# Altium integrated library Analog Devices Data Converters Digital-to-Analog Converters.IntLib: 2231 symbols (part 121 of 181)
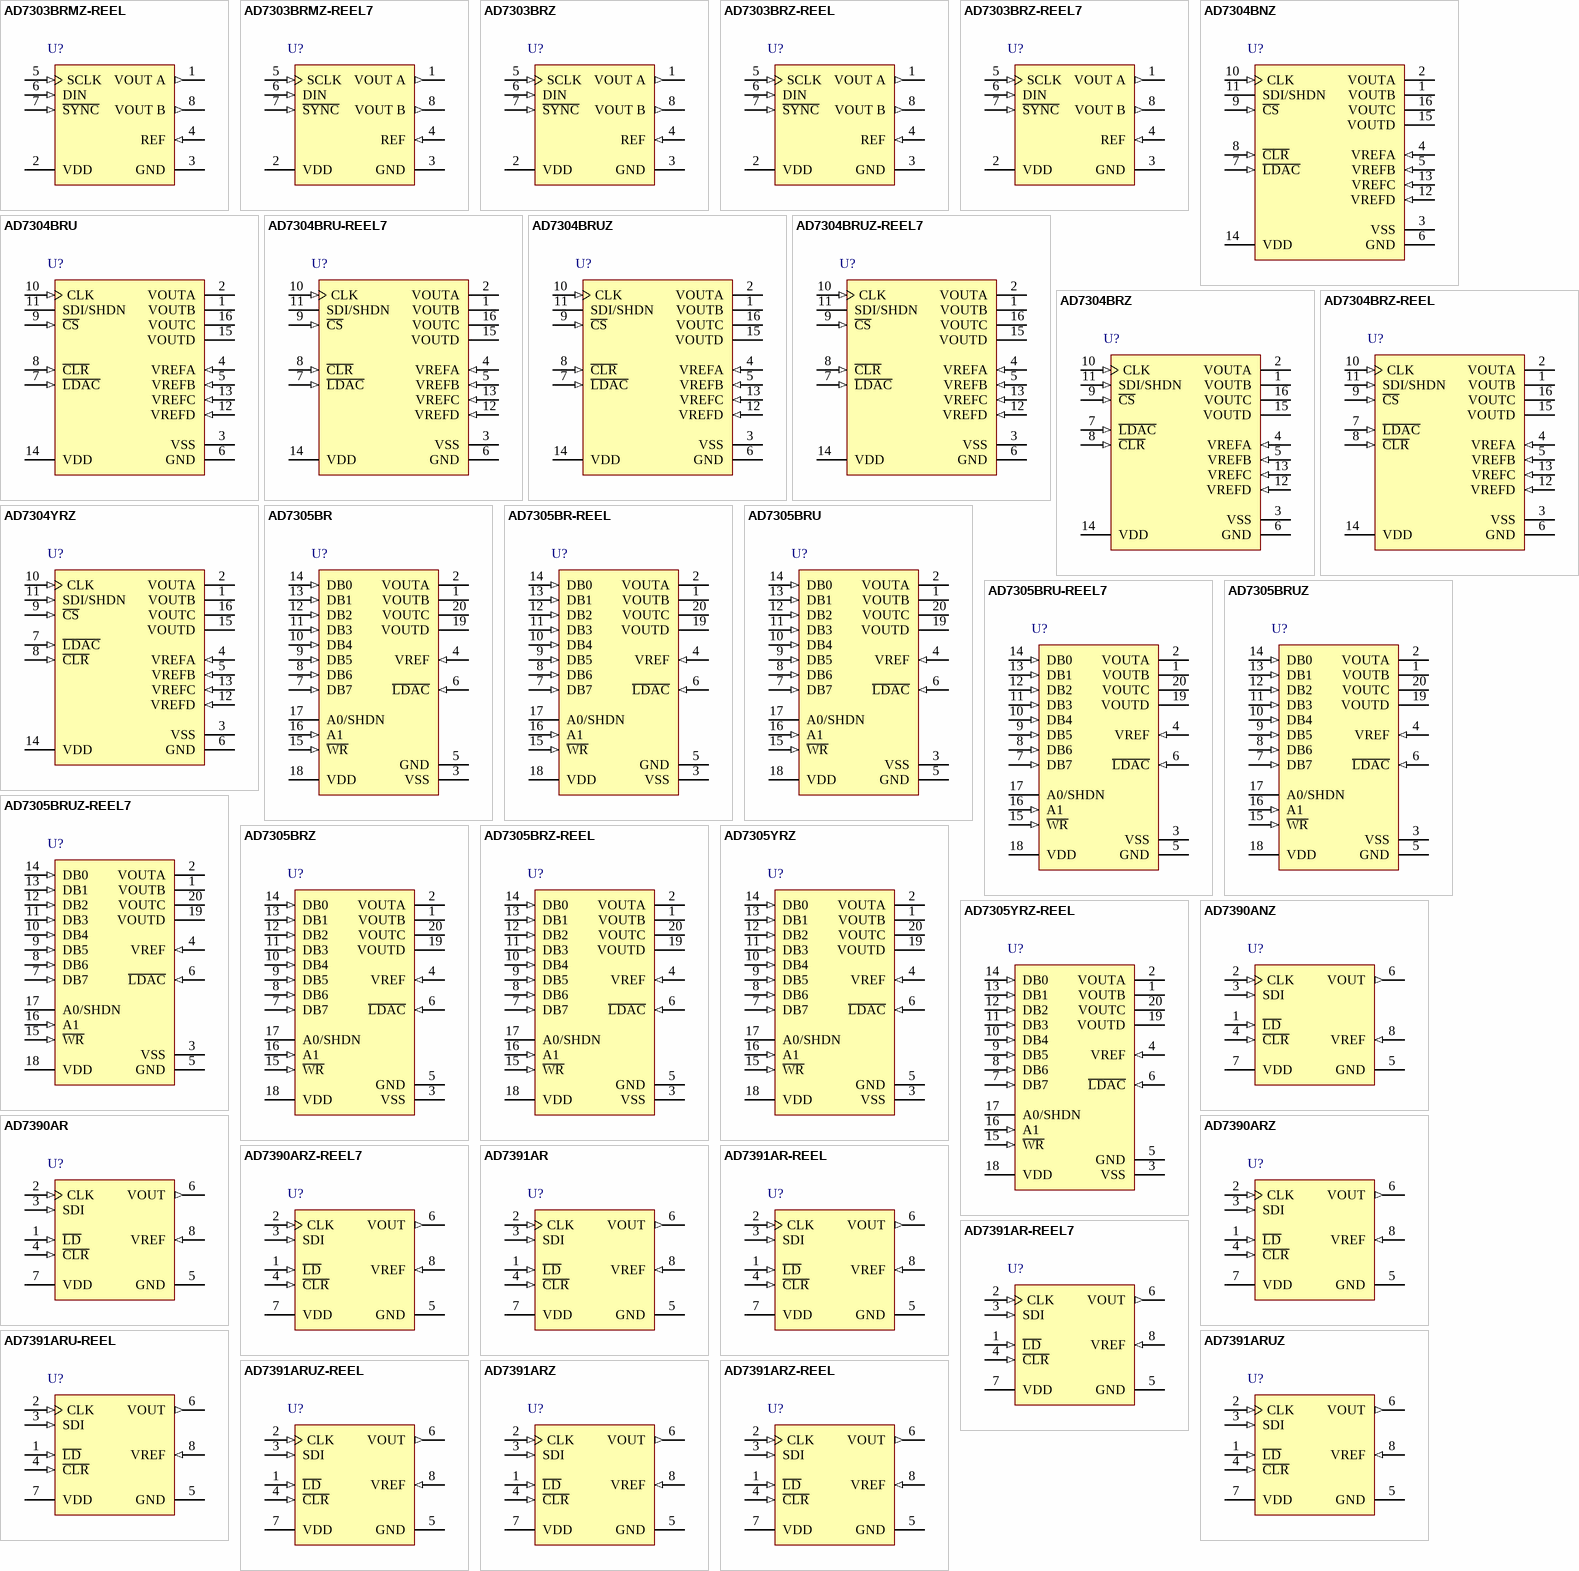
[diagram p234: symbols AD7303BRMZ-REEL to AD7391ARZ-REEL]

## AD7304BRZ
designator U?
Quad 8-Bit Rail-to-Rail Output Digital-to-Analog Converter, 3 V / 5 V, -40 to +85 degC, RW-16, Pb-Free, Tube; Generic Part Number: AD7304; Manufacturer: Analog Devices; PartNumber: AD7304BRZ; # DAC Outputs: 4; Max V+: 5.5V; Op Pwr Diss: 60mW; Resolution (Bits): 8; Settling Time: 1µs; Single Supply: Yes; DatasheetVersion: Rev.C; PackageVersion: 032707-B; PackageReference: RW-16; PackageDescription: 16-Lead Standard Small Outline Package [SOIC_W]; Supplier 1: Digi-Key; Supplier Part Number 1: AD7304BRZ-ND; Supplier 2: Farnell; Supplier Part Number 2: 2305681; Supplier 3: Newark; Supplier Part Number 3: 59K4702; Supplier 4: Mouser; Supplier Part Number 4: 584-AD7304BRZ; Packing: Tube; RoHS: Y; Mounting Technology: Surface Mount; Code_JEDEC: MS-013-AA; Code_IPC: SOIC127P1030-16; ComponentLink1Description: Manufacturer URL; ComponentLink1URL: http://www.analog.com/en/index.html; ComponentLink2Description: Datasheet; ComponentLink2URL: http://www.analog.com/static/imported-files/data_sheets/AD7304_7305.pdf; ComponentLink3Description: Package Specification; ComponentLink3URL: http://www.analog.com/static/imported-files/packages/PKG_PDF/SOIC_WIDE%20%28RW%29/RW_16.pdf; ComponentLink4Description: Product URL; ComponentLink4URL: http://www.analog.com/en/digital-to-analog-converters/da-converters/ad7304/products/product.html
footprint RW-16_N (SOIC, 16-Leads, Body 10.3x7.5mm, Pitch 1.27mm, IPC Medium Density)
footprint RW-16_L (SOIC, 16-Leads, Body 10.3x7.5mm, Pitch 1.27mm, IPC High Density)
footprint RW-16_M (SOIC, 16-Leads, Body 10.3x7.5mm, Pitch 1.27mm, IPC Low Density)
pins: 1 VOUTB (hiz) "Channel B Rail-to-Rail Buffered DAC Voltage Output. Full-scale set by reference voltage applied to VREFB pin. Output is open circuit when SHDN is enabled.", 2 VOUTA (hiz) "Channel A Rail-to-Rail Buffered DAC Voltage Output. Full-scale set by reference voltage applied to VREFA pin. Output is open circuit when SHDN is enabled.", 3 VSS (power) "Negative Power Supply Input. Specified range of operation is 0 V to -5.5 V.", 4 VREFA (in) "Channel A Reference Input. Establishes VOUTA full-scale voltage. Specified range of operation is VSS < VREFA < VDD.", 5 VREFB (in) "Channel B Reference Input. Establishes VOUTB full-scale voltage. Specified range of operation is VSS < VREFB < VDD.", 6 GND (power) "Common Analog and Digital Ground.", 7 ~{LDAC} (in) "Load DAC Register Strobe, Active Low. Simultaneously transfers data from all four input registers into the corresponding DAC registers. Asynchronous active low input. DAC register is transparent when L\D\A\C\ = 0. See Table (See Datasheet)", 8 ~{CLR} (in) "Clears All Input and DAC Registers to the Zero Condition. Asynchronous active low input. The serial register is not effected.", 9 ~{CS} (in) "Chip Select, Active Low Input. Disables shift register loading when high. Transfers serial input register data to the decoded input register when C\S\ returns high. Does not effect L\D\A\C\ operation.", 10 CLK (in) "Clock Input, Positive Edge Clocks Data into Shift Register. Disabled by chip select C\S\.", 11 SDI/SHDN (in) "Serial Data Input Loads Directly into the Shift Register, MSB First. Hardware shutdown (SHDN) control input, active when pin is left floating by a three-state logic driver. Does not effect DAC register contents as long as (See Datasheet)", 12 VREFD (in) "Channel D Reference Input. Establishes VOUTD full-scale voltage. Specified range of operation is VSS < VREFD < VDD.", 13 VREFC (in) "Channel C Reference Input. Establishes VOUTC full-scale voltage. Specified range of operation is VSS VREFC < VDD.", 14 VDD (power) "Positive Power Supply Input. Specified range of operation is 2.7 V to 5.5 V.", 15 VOUTD (hiz) "Channel D Rail-to-Rail Buffered DAC Voltage Output. Full-scale set by reference voltage applied to VREFD pin. Output is open circuit when SHDN is enabled.", 16 VOUTC (hiz) "Channel C Rail-to-Rail Buffered DAC Voltage Output. Full-scale set by reference voltage applied to VREFC pin. Output is open circuit when SHDN is enabled."

## AD7304BRZ-REEL
designator U?
Quad 8-Bit Rail-to-Rail Output Digital-to-Analog Converter, 3 V / 5 V, -40 to +85 degC, RW-16, Pb-Free, Reel; Generic Part Number: AD7304; Manufacturer: Analog Devices; PartNumber: AD7304BRZ-REEL; # DAC Outputs: 4; Max V+: 5.5V; Op Pwr Diss: 60mW; Resolution (Bits): 8; Settling Time: 1µs; Single Supply: Yes; DatasheetVersion: Rev.C; PackageVersion: 032707-B; PackageReference: RW-16; PackageDescription: 16-Lead Standard Small Outline Package [SOIC_W]; Supplier 1: Digi-Key; Supplier Part Number 1: AD7304BRZ-REEL-ND; Supplier 2: Mouser; Supplier Part Number 2: 584-AD7304BRZ-R; Packing: Reel; RoHS: Y; Mounting Technology: Surface Mount; Code_JEDEC: MS-013-AA; Code_IPC: SOIC127P1030-16; ComponentLink1Description: Manufacturer URL; ComponentLink1URL: http://www.analog.com/en/index.html; ComponentLink2Description: Datasheet; ComponentLink2URL: http://www.analog.com/static/imported-files/data_sheets/AD7304_7305.pdf; ComponentLink3Description: Package Specification; ComponentLink3URL: http://www.analog.com/static/imported-files/packages/PKG_PDF/SOIC_WIDE%20%28RW%29/RW_16.pdf; ComponentLink4Description: Product URL; ComponentLink4URL: http://www.analog.com/en/digital-to-analog-converters/da-converters/ad7304/products/product.html
footprint RW-16_N (SOIC, 16-Leads, Body 10.3x7.5mm, Pitch 1.27mm, IPC Medium Density)
footprint RW-16_L (SOIC, 16-Leads, Body 10.3x7.5mm, Pitch 1.27mm, IPC High Density)
footprint RW-16_M (SOIC, 16-Leads, Body 10.3x7.5mm, Pitch 1.27mm, IPC Low Density)
pins: 1 VOUTB (hiz) "Channel B Rail-to-Rail Buffered DAC Voltage Output. Full-scale set by reference voltage applied to VREFB pin. Output is open circuit when SHDN is enabled.", 2 VOUTA (hiz) "Channel A Rail-to-Rail Buffered DAC Voltage Output. Full-scale set by reference voltage applied to VREFA pin. Output is open circuit when SHDN is enabled.", 3 VSS (power) "Negative Power Supply Input. Specified range of operation is 0 V to -5.5 V.", 4 VREFA (in) "Channel A Reference Input. Establishes VOUTA full-scale voltage. Specified range of operation is VSS < VREFA < VDD.", 5 VREFB (in) "Channel B Reference Input. Establishes VOUTB full-scale voltage. Specified range of operation is VSS < VREFB < VDD.", 6 GND (power) "Common Analog and Digital Ground.", 7 ~{LDAC} (in) "Load DAC Register Strobe, Active Low. Simultaneously transfers data from all four input registers into the corresponding DAC registers. Asynchronous active low input. DAC register is transparent when L\D\A\C\ = 0. See Table (See Datasheet)", 8 ~{CLR} (in) "Clears All Input and DAC Registers to the Zero Condition. Asynchronous active low input. The serial register is not effected.", 9 ~{CS} (in) "Chip Select, Active Low Input. Disables shift register loading when high. Transfers serial input register data to the decoded input register when C\S\ returns high. Does not effect L\D\A\C\ operation.", 10 CLK (in) "Clock Input, Positive Edge Clocks Data into Shift Register. Disabled by chip select C\S\.", 11 SDI/SHDN (in) "Serial Data Input Loads Directly into the Shift Register, MSB First. Hardware shutdown (SHDN) control input, active when pin is left floating by a three-state logic driver. Does not effect DAC register contents as long as (See Datasheet)", 12 VREFD (in) "Channel D Reference Input. Establishes VOUTD full-scale voltage. Specified range of operation is VSS < VREFD < VDD.", 13 VREFC (in) "Channel C Reference Input. Establishes VOUTC full-scale voltage. Specified range of operation is VSS VREFC < VDD.", 14 VDD (power) "Positive Power Supply Input. Specified range of operation is 2.7 V to 5.5 V.", 15 VOUTD (hiz) "Channel D Rail-to-Rail Buffered DAC Voltage Output. Full-scale set by reference voltage applied to VREFD pin. Output is open circuit when SHDN is enabled.", 16 VOUTC (hiz) "Channel C Rail-to-Rail Buffered DAC Voltage Output. Full-scale set by reference voltage applied to VREFC pin. Output is open circuit when SHDN is enabled."

## AD7304YRZ
designator U?
Quad 8-Bit Rail-to-Rail Output Digital-to-Analog Converter, 3 V / 5 V, -40 to +85 degC, RW-16, Pb-Free, Tube; Generic Part Number: AD7304; Manufacturer: Analog Devices; PartNumber: AD7304YRZ; # DAC Outputs: 4; Max V+: 5.5V; Op Pwr Diss: 60mW; Resolution (Bits): 8; Settling Time: 1µs; Single Supply: Yes; DatasheetVersion: Rev.C; PackageVersion: 032707-B; PackageReference: RW-16; PackageDescription: 16-Lead Standard Small Outline Package [SOIC_W]; Supplier 1: Digi-Key; Supplier Part Number 1: AD7304YRZ-ND; Supplier 2: Farnell; Supplier Part Number 2: 1438404; Supplier 3: Newark; Supplier Part Number 3: 15P0787; Supplier 4: Mouser; Supplier Part Number 4: 584-AD7304YRZ; Packing: Tube; RoHS: Y; Mounting Technology: Surface Mount; Code_JEDEC: MS-013-AA; Code_IPC: SOIC127P1030-16; ComponentLink1Description: Manufacturer URL; ComponentLink1URL: http://www.analog.com/en/index.html; ComponentLink2Description: Datasheet; ComponentLink2URL: http://www.analog.com/static/imported-files/data_sheets/AD7304_7305.pdf; ComponentLink3Description: Package Specification; ComponentLink3URL: http://www.analog.com/static/imported-files/packages/PKG_PDF/SOIC_WIDE%20%28RW%29/RW_16.pdf; ComponentLink4Description: Product URL; ComponentLink4URL: http://www.analog.com/en/digital-to-analog-converters/da-converters/ad7304/products/product.html
footprint RW-16_N (SOIC, 16-Leads, Body 10.3x7.5mm, Pitch 1.27mm, IPC Medium Density)
footprint RW-16_L (SOIC, 16-Leads, Body 10.3x7.5mm, Pitch 1.27mm, IPC High Density)
footprint RW-16_M (SOIC, 16-Leads, Body 10.3x7.5mm, Pitch 1.27mm, IPC Low Density)
pins: 1 VOUTB (hiz) "Channel B Rail-to-Rail Buffered DAC Voltage Output. Full-scale set by reference voltage applied to VREFB pin. Output is open circuit when SHDN is enabled.", 2 VOUTA (hiz) "Channel A Rail-to-Rail Buffered DAC Voltage Output. Full-scale set by reference voltage applied to VREFA pin. Output is open circuit when SHDN is enabled.", 3 VSS (power) "Negative Power Supply Input. Specified range of operation is 0 V to -5.5 V.", 4 VREFA (in) "Channel A Reference Input. Establishes VOUTA full-scale voltage. Specified range of operation is VSS < VREFA < VDD.", 5 VREFB (in) "Channel B Reference Input. Establishes VOUTB full-scale voltage. Specified range of operation is VSS < VREFB < VDD.", 6 GND (power) "Common Analog and Digital Ground.", 7 ~{LDAC} (in) "Load DAC Register Strobe, Active Low. Simultaneously transfers data from all four input registers into the corresponding DAC registers. Asynchronous active low input. DAC register is transparent when L\D\A\C\ = 0. See Table (See Datasheet)", 8 ~{CLR} (in) "Clears All Input and DAC Registers to the Zero Condition. Asynchronous active low input. The serial register is not effected.", 9 ~{CS} (in) "Chip Select, Active Low Input. Disables shift register loading when high. Transfers serial input register data to the decoded input register when C\S\ returns high. Does not effect L\D\A\C\ operation.", 10 CLK (in) "Clock Input, Positive Edge Clocks Data into Shift Register. Disabled by chip select C\S\.", 11 SDI/SHDN (in) "Serial Data Input Loads Directly into the Shift Register, MSB First. Hardware shutdown (SHDN) control input, active when pin is left floating by a three-state logic driver. Does not effect DAC register contents as long as (See Datasheet)", 12 VREFD (in) "Channel D Reference Input. Establishes VOUTD full-scale voltage. Specified range of operation is VSS < VREFD < VDD.", 13 VREFC (in) "Channel C Reference Input. Establishes VOUTC full-scale voltage. Specified range of operation is VSS VREFC < VDD.", 14 VDD (power) "Positive Power Supply Input. Specified range of operation is 2.7 V to 5.5 V.", 15 VOUTD (hiz) "Channel D Rail-to-Rail Buffered DAC Voltage Output. Full-scale set by reference voltage applied to VREFD pin. Output is open circuit when SHDN is enabled.", 16 VOUTC (hiz) "Channel C Rail-to-Rail Buffered DAC Voltage Output. Full-scale set by reference voltage applied to VREFC pin. Output is open circuit when SHDN is enabled."

## AD7305BR
designator U?
Quad 8-Bit Rail-to-Rail Output Digital-to-Analog Converter, 3 V / 5 V, -40 to +85 degC, RW-20, Tube; Generic Part Number: AD7305; Manufacturer: Analog Devices; PartNumber: AD7305BR; # DAC Outputs: 4; Max V+: 5.5V; Op Pwr Diss: 60mW; Resolution (Bits): 8; Settling Time: 1µs; Single Supply: Yes; DatasheetVersion: Rev.C; PackageVersion: 060706-A; PackageReference: RW-20; PackageDescription: 20-Lead Standard Small Outline Package [SOIC_W] Wide Body; Supplier 1: Digi-Key; Supplier Part Number 1: AD7305BR-ND; Supplier 2: Mouser; Supplier Part Number 2: 584-AD7305BR; Packing: Tube; RoHS: N; Mounting Technology: Surface Mount; Code_JEDEC: MS-013-AC; ComponentLink1Description: Manufacturer URL; ComponentLink1URL: http://www.analog.com/en/index.html; ComponentLink2Description: Datasheet; ComponentLink2URL: http://www.analog.com/static/imported-files/data_sheets/AD7304_7305.pdf; ComponentLink3Description: Package Specification; ComponentLink3URL: http://www.analog.com/static/imported-files/packages/233848RW_20.pdf; ComponentLink4Description: Product URL; ComponentLink4URL: http://www.analog.com/en/digital-to-analog-converters/da-converters/ad7305/products/product.html
footprint RW-20_N (SOIC, 20-Leads, Body 12.8x7.5mm, Pitch 1.27mm, IPC Medium Density)
footprint RW-20_L (SOIC, 20-Leads, Body 12.8x7.5mm, Pitch 1.27mm, IPC High Density)
footprint RW-20_M (SOIC, 20-Leads, Body 12.8x7.5mm, Pitch 1.27mm, IPC Low Density)
pins: 1 VOUTB (hiz) "Channel B Rail-to-Rail Buffered DAC Voltage Output. Full-scale set by reference voltage applied to VREFB pin. Output is open circuit when SHDN is enabled.", 2 VOUTA (hiz) "Channel A Rail-to-Rail Buffered DAC Voltage Output. Full-scale set by reference voltage applied to VREFA pin. Output is open circuit when SHDN is enabled.", 3 VSS (power) "Negative Power Supply Input. Specified range of operation is 0 V to -5.5 V.", 4 VREF (in) "Channel B Reference Input. Establishes VOUT full-scale voltage. Specified range of operation is VSS < VREF < VDD.", 5 GND (power) "Common Analog and Digital Ground", 6 ~{LDAC} (in) "Load DAC Register Strobe, Active Low. Simultaneously transfers data from all four input registers into the corresponding DAC registers. Asynchronous active low input. DAC register is transparent when L\D\A\C\ = 0. See Table (See Datasheet)", 7 DB7 (in) "MSB Digital Input Data Bit.", 8 DB6 (in) "Data Bit 6.", 9 DB5 (in) "Data Bit 5.", 10 DB4 (in) "Data Bit 4.", 11 DB3 (in) "Data Bit 3.", 12 DB2 (in) "Data Bit 2.", 13 DB1 (in) "Data Bit 1.", 14 DB0 (in) "LSB Digital Input Data Bit.", 15 ~{WR} (in) "Write Data into Input Register Control Line, Active Low. See Table 6 for operation.", 16 A1 (in) "Address Bit 1.", 17 A0/SHDN "Address Bit 0/Hardware Shutdown (SHDN) Control Input, Active When Pin Is Left Floating by a Three-State Logic Driver. Does not effect DAC register contents as long as power is present on VDD.", 18 VDD (power) "Positive Power Supply Input. Specified range of operation is 2.7 V to 5.5 V.", 19 VOUTD (hiz) "Channel D Rail-to-Rail Buffered DAC Voltage Output. Full-scale set by reference voltage applied to VREFD pin. Output is open circuit when SHDN is enabled", 20 VOUTC (hiz) "Channel C Rail-to-Rail Buffered DAC Voltage Output. Full-scale set by reference voltage applied to VREFC pin. Output is open circuit when SHDN is enabled."

## AD7305BR-REEL
designator U?
Quad 8-Bit Rail-to-Rail Output Digital-to-Analog Converter, 3 V / 5 V, -40 to +85 degC, RW-20, Reel; Generic Part Number: AD7305; Manufacturer: Analog Devices; PartNumber: AD7305BR-REEL; # DAC Outputs: 4; Max V+: 5.5V; Op Pwr Diss: 60mW; Resolution (Bits): 8; Settling Time: 1µs; Single Supply: Yes; DatasheetVersion: Rev.C; PackageVersion: 060706-A; PackageReference: RW-20; PackageDescription: 20-Lead Standard Small Outline Package [SOIC_W] Wide Body; Supplier 1: Digi-Key; Supplier Part Number 1: AD7305BR-REEL-ND; Supplier 2: Newark; Supplier Part Number 2: 98B7243; Supplier 3: Mouser; Supplier Part Number 3: 584-AD7305BR-R; Packing: Reel; RoHS: N; Mounting Technology: Surface Mount; Code_JEDEC: MS-013-AC; ComponentLink1Description: Manufacturer URL; ComponentLink1URL: http://www.analog.com/en/index.html; ComponentLink2Description: Datasheet; ComponentLink2URL: http://www.analog.com/static/imported-files/data_sheets/AD7304_7305.pdf; ComponentLink3Description: Package Specification; ComponentLink3URL: http://www.analog.com/static/imported-files/packages/233848RW_20.pdf; ComponentLink4Description: Product URL; ComponentLink4URL: http://www.analog.com/en/digital-to-analog-converters/da-converters/ad7305/products/product.html
footprint RW-20_N (SOIC, 20-Leads, Body 12.8x7.5mm, Pitch 1.27mm, IPC Medium Density)
footprint RW-20_L (SOIC, 20-Leads, Body 12.8x7.5mm, Pitch 1.27mm, IPC High Density)
footprint RW-20_M (SOIC, 20-Leads, Body 12.8x7.5mm, Pitch 1.27mm, IPC Low Density)
pins: 1 VOUTB (hiz) "Channel B Rail-to-Rail Buffered DAC Voltage Output. Full-scale set by reference voltage applied to VREFB pin. Output is open circuit when SHDN is enabled.", 2 VOUTA (hiz) "Channel A Rail-to-Rail Buffered DAC Voltage Output. Full-scale set by reference voltage applied to VREFA pin. Output is open circuit when SHDN is enabled.", 3 VSS (power) "Negative Power Supply Input. Specified range of operation is 0 V to -5.5 V.", 4 VREF (in) "Channel B Reference Input. Establishes VOUT full-scale voltage. Specified range of operation is VSS < VREF < VDD.", 5 GND (power) "Common Analog and Digital Ground", 6 ~{LDAC} (in) "Load DAC Register Strobe, Active Low. Simultaneously transfers data from all four input registers into the corresponding DAC registers. Asynchronous active low input. DAC register is transparent when L\D\A\C\ = 0. See Table (See Datasheet)", 7 DB7 (in) "MSB Digital Input Data Bit.", 8 DB6 (in) "Data Bit 6.", 9 DB5 (in) "Data Bit 5.", 10 DB4 (in) "Data Bit 4.", 11 DB3 (in) "Data Bit 3.", 12 DB2 (in) "Data Bit 2.", 13 DB1 (in) "Data Bit 1.", 14 DB0 (in) "LSB Digital Input Data Bit.", 15 ~{WR} (in) "Write Data into Input Register Control Line, Active Low. See Table 6 for operation.", 16 A1 (in) "Address Bit 1.", 17 A0/SHDN "Address Bit 0/Hardware Shutdown (SHDN) Control Input, Active When Pin Is Left Floating by a Three-State Logic Driver. Does not effect DAC register contents as long as power is present on VDD.", 18 VDD (power) "Positive Power Supply Input. Specified range of operation is 2.7 V to 5.5 V.", 19 VOUTD (hiz) "Channel D Rail-to-Rail Buffered DAC Voltage Output. Full-scale set by reference voltage applied to VREFD pin. Output is open circuit when SHDN is enabled", 20 VOUTC (hiz) "Channel C Rail-to-Rail Buffered DAC Voltage Output. Full-scale set by reference voltage applied to VREFC pin. Output is open circuit when SHDN is enabled."

## AD7305BRU
designator U?
Quad 8-Bit Rail-to-Rail Output Digital-to-Analog Converter, 3 V / 5 V, -40 to +85 degC, RU-20, Tube; Generic Part Number: AD7305; Manufacturer: Analog Devices; PartNumber: AD7305BRU; # DAC Outputs: 4; Max V+: 5.5V; Op Pwr Diss: 60mW; Resolution (Bits): 8; Settling Time: 1µs; Single Supply: Yes; DatasheetVersion: Rev.C; PackageVersion: 2000; PackageReference: RU-20; PackageDescription: 20-Lead Thin Shrink Small Outline Package [TSSOP]; Supplier 1: Digi-Key; Supplier Part Number 1: AD7305BRU-ND; Supplier 2: Mouser; Supplier Part Number 2: 584-AD7305BRU; Packing: Tube; RoHS: N; Mounting Technology: Surface Mount; Code_JEDEC: MO-153AC; ComponentLink1Description: Manufacturer URL; ComponentLink1URL: http://www.analog.com/en/index.html; ComponentLink2Description: Datasheet; ComponentLink2URL: http://www.analog.com/static/imported-files/data_sheets/AD7304_7305.pdf; ComponentLink3Description: Package Specification; ComponentLink3URL: http://www.analog.com/static/imported-files/packages/364515793657813558433715854054607941441RU20.pdf; ComponentLink4Description: Product URL; ComponentLink4URL: http://www.analog.com/en/digital-to-analog-converters/da-converters/ad7305/products/product.html
footprint RU-20_N (TSOP, 20-Leads, Body 6.5x4.4mm, Pitch 0.65mm, IPC Medium Density)
footprint RU-20_L (TSOP, 20-Leads, Body 6.5x4.4mm, Pitch 0.65mm, IPC High Density)
footprint RU-20_M (TSOP, 20-Leads, Body 6.5x4.4mm, Pitch 0.65mm, IPC Low Density)
pins: 1 VOUTB (hiz) "Channel B Rail-to-Rail Buffered DAC Voltage Output. Full-scale set by reference voltage applied to VREFB pin. Output is open circuit when SHDN is enabled", 2 VOUTA (hiz) "Channel A Rail-to-Rail Buffered DAC Voltage Output. Full-scale set by reference voltage applied to VREFA pin. Output is open circuit when SHDN is enabled.", 3 VSS (power) "Negative Power Supply Input. Specified range of operation is 0 V to -5.5 V.", 4 VREF (in) "Channel B Reference Input. Establishes VOUT full-scale voltage. Specified range of operation is VSS < VREF < VDD.", 5 GND (power) "Common Analog and Digital Ground.", 6 ~{LDAC} (in) "Load DAC Register Strobe, Active Low. Simultaneously transfers data from all four input registers into the corresponding DAC registers. Asynchronous active low input. DAC register is transparent when L\D\A\C\ = 0. See Table (See Datasheet)", 7 DB7 (in) "MSB Digital Input Data Bit", 8 DB6 (in) "Data Bit 6.", 9 DB5 (in) "Data Bit 5.", 10 DB4 (in) "Data Bit 4.", 11 DB3 (in) "Data Bit 3.", 12 DB2 (in) "Data Bit 2.", 13 DB1 (in) "Data Bit 1.", 14 DB0 (in) "LSB Digital Input Data Bit.", 15 ~{WR} (in) "Write Data into Input Register Control Line, Active Low. See Table 6 for operation.", 16 A1 (in) "Address Bit 1.", 17 A0/SHDN "Address Bit 0/Hardware Shutdown (SHDN) Control Input, Active When Pin Is Left Floating by a Three-State Logic Driver. Does not effect DAC register contents as long as power is present on VDD", 18 VDD (power) "Positive Power Supply Input. Specified range of operation is 2.7 V to 5.5 V.", 19 VOUTD (hiz) "Channel D Rail-to-Rail Buffered DAC Voltage Output. Full-scale set by reference voltage applied to VREFD pin. Output is open circuit when SHDN is enabled.", 20 VOUTC (hiz) "Channel C Rail-to-Rail Buffered DAC Voltage Output. Full-scale set by reference voltage applied to VREFC pin. Output is open circuit when SHDN is enabled."

## AD7305BRU-REEL7
designator U?
Quad 8-Bit Rail-to-Rail Output Digital-to-Analog Converter, 3 V / 5 V, -40 to +85 degC, RU-20, Reel; Generic Part Number: AD7305; Manufacturer: Analog Devices; PartNumber: AD7305BRU-REEL7; # DAC Outputs: 4; Max V+: 5.5V; Op Pwr Diss: 60mW; Resolution (Bits): 8; Settling Time: 1µs; Single Supply: Yes; DatasheetVersion: Rev.C; PackageVersion: 2000; PackageReference: RU-20; PackageDescription: 20-Lead Thin Shrink Small Outline Package [TSSOP]; Supplier 1: Digi-Key; Supplier Part Number 1: AD7305BRU-REEL7-ND; Supplier 2: Newark; Supplier Part Number 2: 09B5646; Supplier 3: Mouser; Supplier Part Number 3: 584-AD7305BRU-R7; Packing: Reel; RoHS: N; Mounting Technology: Surface Mount; Code_JEDEC: MO-153AC; ComponentLink1Description: Manufacturer URL; ComponentLink1URL: http://www.analog.com/en/index.html; ComponentLink2Description: Datasheet; ComponentLink2URL: http://www.analog.com/static/imported-files/data_sheets/AD7304_7305.pdf; ComponentLink3Description: Package Specification; ComponentLink3URL: http://www.analog.com/static/imported-files/packages/364515793657813558433715854054607941441RU20.pdf; ComponentLink4Description: Product URL; ComponentLink4URL: http://www.analog.com/en/digital-to-analog-converters/da-converters/ad7305/products/product.html
footprint RU-20_N (TSOP, 20-Leads, Body 6.5x4.4mm, Pitch 0.65mm, IPC Medium Density)
footprint RU-20_L (TSOP, 20-Leads, Body 6.5x4.4mm, Pitch 0.65mm, IPC High Density)
footprint RU-20_M (TSOP, 20-Leads, Body 6.5x4.4mm, Pitch 0.65mm, IPC Low Density)
pins: 1 VOUTB (hiz) "Channel B Rail-to-Rail Buffered DAC Voltage Output. Full-scale set by reference voltage applied to VREFB pin. Output is open circuit when SHDN is enabled", 2 VOUTA (hiz) "Channel A Rail-to-Rail Buffered DAC Voltage Output. Full-scale set by reference voltage applied to VREFA pin. Output is open circuit when SHDN is enabled.", 3 VSS (power) "Negative Power Supply Input. Specified range of operation is 0 V to -5.5 V.", 4 VREF (in) "Channel B Reference Input. Establishes VOUT full-scale voltage. Specified range of operation is VSS < VREF < VDD.", 5 GND (power) "Common Analog and Digital Ground.", 6 ~{LDAC} (in) "Load DAC Register Strobe, Active Low. Simultaneously transfers data from all four input registers into the corresponding DAC registers. Asynchronous active low input. DAC register is transparent when L\D\A\C\ = 0. See Table (See Datasheet)", 7 DB7 (in) "MSB Digital Input Data Bit", 8 DB6 (in) "Data Bit 6.", 9 DB5 (in) "Data Bit 5.", 10 DB4 (in) "Data Bit 4.", 11 DB3 (in) "Data Bit 3.", 12 DB2 (in) "Data Bit 2.", 13 DB1 (in) "Data Bit 1.", 14 DB0 (in) "LSB Digital Input Data Bit.", 15 ~{WR} (in) "Write Data into Input Register Control Line, Active Low. See Table 6 for operation.", 16 A1 (in) "Address Bit 1.", 17 A0/SHDN "Address Bit 0/Hardware Shutdown (SHDN) Control Input, Active When Pin Is Left Floating by a Three-State Logic Driver. Does not effect DAC register contents as long as power is present on VDD", 18 VDD (power) "Positive Power Supply Input. Specified range of operation is 2.7 V to 5.5 V.", 19 VOUTD (hiz) "Channel D Rail-to-Rail Buffered DAC Voltage Output. Full-scale set by reference voltage applied to VREFD pin. Output is open circuit when SHDN is enabled.", 20 VOUTC (hiz) "Channel C Rail-to-Rail Buffered DAC Voltage Output. Full-scale set by reference voltage applied to VREFC pin. Output is open circuit when SHDN is enabled."

## AD7305BRUZ
designator U?
Quad 8-Bit Rail-to-Rail Output Digital-to-Analog Converter, 3 V / 5 V, -40 to +85 degC, RU-20, Pb-Free, Tube; Generic Part Number: AD7305; Manufacturer: Analog Devices; PartNumber: AD7305BRUZ; # DAC Outputs: 4; Max V+: 5.5V; Op Pwr Diss: 60mW; Resolution (Bits): 8; Settling Time: 1µs; Single Supply: Yes; DatasheetVersion: Rev.C; PackageVersion: 2000; PackageReference: RU-20; PackageDescription: 20-Lead Thin Shrink Small Outline Package [TSSOP]; Supplier 1: Digi-Key; Supplier Part Number 1: AD7305BRUZ-ND; Supplier 2: Farnell; Supplier Part Number 2: 1651263; Supplier 3: Newark; Supplier Part Number 3: 15P0788; Supplier 4: Newark; Supplier Part Number 4: 59K4705; Supplier 5: Mouser; Supplier Part Number 5: 584-AD7305BRUZ; Packing: Tube; RoHS: Y; Mounting Technology: Surface Mount; Code_JEDEC: MO-153AC; ComponentLink1Description: Manufacturer URL; ComponentLink1URL: http://www.analog.com/en/index.html; ComponentLink2Description: Datasheet; ComponentLink2URL: http://www.analog.com/static/imported-files/data_sheets/AD7304_7305.pdf; ComponentLink3Description: Package Specification; ComponentLink3URL: http://www.analog.com/static/imported-files/packages/364515793657813558433715854054607941441RU20.pdf; ComponentLink4Description: Product URL; ComponentLink4URL: http://www.analog.com/en/digital-to-analog-converters/da-converters/ad7305/products/product.html
footprint RU-20_N (TSOP, 20-Leads, Body 6.5x4.4mm, Pitch 0.65mm, IPC Medium Density)
footprint RU-20_L (TSOP, 20-Leads, Body 6.5x4.4mm, Pitch 0.65mm, IPC High Density)
footprint RU-20_M (TSOP, 20-Leads, Body 6.5x4.4mm, Pitch 0.65mm, IPC Low Density)
pins: 1 VOUTB (hiz) "Channel B Rail-to-Rail Buffered DAC Voltage Output. Full-scale set by reference voltage applied to VREFB pin. Output is open circuit when SHDN is enabled", 2 VOUTA (hiz) "Channel A Rail-to-Rail Buffered DAC Voltage Output. Full-scale set by reference voltage applied to VREFA pin. Output is open circuit when SHDN is enabled.", 3 VSS (power) "Negative Power Supply Input. Specified range of operation is 0 V to -5.5 V.", 4 VREF (in) "Channel B Reference Input. Establishes VOUT full-scale voltage. Specified range of operation is VSS < VREF < VDD.", 5 GND (power) "Common Analog and Digital Ground.", 6 ~{LDAC} (in) "Load DAC Register Strobe, Active Low. Simultaneously transfers data from all four input registers into the corresponding DAC registers. Asynchronous active low input. DAC register is transparent when L\D\A\C\ = 0. See Table (See Datasheet)", 7 DB7 (in) "MSB Digital Input Data Bit", 8 DB6 (in) "Data Bit 6.", 9 DB5 (in) "Data Bit 5.", 10 DB4 (in) "Data Bit 4.", 11 DB3 (in) "Data Bit 3.", 12 DB2 (in) "Data Bit 2.", 13 DB1 (in) "Data Bit 1.", 14 DB0 (in) "LSB Digital Input Data Bit.", 15 ~{WR} (in) "Write Data into Input Register Control Line, Active Low. See Table 6 for operation.", 16 A1 (in) "Address Bit 1.", 17 A0/SHDN "Address Bit 0/Hardware Shutdown (SHDN) Control Input, Active When Pin Is Left Floating by a Three-State Logic Driver. Does not effect DAC register contents as long as power is present on VDD", 18 VDD (power) "Positive Power Supply Input. Specified range of operation is 2.7 V to 5.5 V.", 19 VOUTD (hiz) "Channel D Rail-to-Rail Buffered DAC Voltage Output. Full-scale set by reference voltage applied to VREFD pin. Output is open circuit when SHDN is enabled.", 20 VOUTC (hiz) "Channel C Rail-to-Rail Buffered DAC Voltage Output. Full-scale set by reference voltage applied to VREFC pin. Output is open circuit when SHDN is enabled."

## AD7305BRUZ-REEL7
designator U?
Quad 8-Bit Rail-to-Rail Output Digital-to-Analog Converter, 3 V / 5 V, -40 to +85 degC, RU-20, Pb-Free, Reel; Generic Part Number: AD7305; Manufacturer: Analog Devices; PartNumber: AD7305BRUZ-REEL7; # DAC Outputs: 4; Max V+: 5.5V; Op Pwr Diss: 60mW; Resolution (Bits): 8; Settling Time: 1µs; Single Supply: Yes; DatasheetVersion: Rev.C; PackageVersion: 2000; PackageReference: RU-20; PackageDescription: 20-Lead Thin Shrink Small Outline Package [TSSOP]; Supplier 1: Digi-Key; Supplier Part Number 1: AD7305BRUZ-REEL7TR-ND; Supplier 2: Digi-Key; Supplier Part Number 2: AD7305BRUZ-REEL7CT-ND; Supplier 3: Digi-Key; Supplier Part Number 3: AD7305BRUZ-REEL7DKR-ND; Supplier 4: Newark; Supplier Part Number 4: 59K4706; Supplier 5: Mouser; Supplier Part Number 5: 584-AD7305BRUZ-R7; Packing: Reel; RoHS: Y; Mounting Technology: Surface Mount; Code_JEDEC: MO-153AC; ComponentLink1Description: Manufacturer URL; ComponentLink1URL: http://www.analog.com/en/index.html; ComponentLink2Description: Datasheet; ComponentLink2URL: http://www.analog.com/static/imported-files/data_sheets/AD7304_7305.pdf; ComponentLink3Description: Package Specification; ComponentLink3URL: http://www.analog.com/static/imported-files/packages/364515793657813558433715854054607941441RU20.pdf; ComponentLink4Description: Product URL; ComponentLink4URL: http://www.analog.com/en/digital-to-analog-converters/da-converters/ad7305/products/product.html
footprint RU-20_N (TSOP, 20-Leads, Body 6.5x4.4mm, Pitch 0.65mm, IPC Medium Density)
footprint RU-20_L (TSOP, 20-Leads, Body 6.5x4.4mm, Pitch 0.65mm, IPC High Density)
footprint RU-20_M (TSOP, 20-Leads, Body 6.5x4.4mm, Pitch 0.65mm, IPC Low Density)
pins: 1 VOUTB (hiz) "Channel B Rail-to-Rail Buffered DAC Voltage Output. Full-scale set by reference voltage applied to VREFB pin. Output is open circuit when SHDN is enabled", 2 VOUTA (hiz) "Channel A Rail-to-Rail Buffered DAC Voltage Output. Full-scale set by reference voltage applied to VREFA pin. Output is open circuit when SHDN is enabled.", 3 VSS (power) "Negative Power Supply Input. Specified range of operation is 0 V to -5.5 V.", 4 VREF (in) "Channel B Reference Input. Establishes VOUT full-scale voltage. Specified range of operation is VSS < VREF < VDD.", 5 GND (power) "Common Analog and Digital Ground.", 6 ~{LDAC} (in) "Load DAC Register Strobe, Active Low. Simultaneously transfers data from all four input registers into the corresponding DAC registers. Asynchronous active low input. DAC register is transparent when L\D\A\C\ = 0. See Table (See Datasheet)", 7 DB7 (in) "MSB Digital Input Data Bit", 8 DB6 (in) "Data Bit 6.", 9 DB5 (in) "Data Bit 5.", 10 DB4 (in) "Data Bit 4.", 11 DB3 (in) "Data Bit 3.", 12 DB2 (in) "Data Bit 2.", 13 DB1 (in) "Data Bit 1.", 14 DB0 (in) "LSB Digital Input Data Bit.", 15 ~{WR} (in) "Write Data into Input Register Control Line, Active Low. See Table 6 for operation.", 16 A1 (in) "Address Bit 1.", 17 A0/SHDN "Address Bit 0/Hardware Shutdown (SHDN) Control Input, Active When Pin Is Left Floating by a Three-State Logic Driver. Does not effect DAC register contents as long as power is present on VDD", 18 VDD (power) "Positive Power Supply Input. Specified range of operation is 2.7 V to 5.5 V.", 19 VOUTD (hiz) "Channel D Rail-to-Rail Buffered DAC Voltage Output. Full-scale set by reference voltage applied to VREFD pin. Output is open circuit when SHDN is enabled.", 20 VOUTC (hiz) "Channel C Rail-to-Rail Buffered DAC Voltage Output. Full-scale set by reference voltage applied to VREFC pin. Output is open circuit when SHDN is enabled."

## AD7305BRZ
designator U?
Quad 8-Bit Rail-to-Rail Output Digital-to-Analog Converter, 3 V / 5 V, -40 to +85 degC, RW-20, Pb-Free, Tube; Generic Part Number: AD7305; Manufacturer: Analog Devices; PartNumber: AD7305BRZ; # DAC Outputs: 4; Max V+: 5.5V; Op Pwr Diss: 60mW; Resolution (Bits): 8; Settling Time: 1µs; Single Supply: Yes; DatasheetVersion: Rev.C; PackageVersion: 060706-A; PackageReference: RW-20; PackageDescription: 20-Lead Standard Small Outline Package [SOIC_W] Wide Body; Supplier 1: Digi-Key; Supplier Part Number 1: AD7305BRZ-ND; Supplier 2: Farnell; Supplier Part Number 2: 1319392; Supplier 3: Newark; Supplier Part Number 3: 19M8836; Supplier 4: Mouser; Supplier Part Number 4: 584-AD7305BRZ; Packing: Tube; RoHS: Y; Mounting Technology: Surface Mount; Code_JEDEC: MS-013-AC; ComponentLink1Description: Manufacturer URL; ComponentLink1URL: http://www.analog.com/en/index.html; ComponentLink2Description: Datasheet; ComponentLink2URL: http://www.analog.com/static/imported-files/data_sheets/AD7304_7305.pdf; ComponentLink3Description: Package Specification; ComponentLink3URL: http://www.analog.com/static/imported-files/packages/233848RW_20.pdf; ComponentLink4Description: Product URL; ComponentLink4URL: http://www.analog.com/en/digital-to-analog-converters/da-converters/ad7305/products/product.html
footprint RW-20_N (SOIC, 20-Leads, Body 12.8x7.5mm, Pitch 1.27mm, IPC Medium Density)
footprint RW-20_L (SOIC, 20-Leads, Body 12.8x7.5mm, Pitch 1.27mm, IPC High Density)
footprint RW-20_M (SOIC, 20-Leads, Body 12.8x7.5mm, Pitch 1.27mm, IPC Low Density)
pins: 1 VOUTB (hiz) "Channel B Rail-to-Rail Buffered DAC Voltage Output. Full-scale set by reference voltage applied to VREFB pin. Output is open circuit when SHDN is enabled.", 2 VOUTA (hiz) "Channel A Rail-to-Rail Buffered DAC Voltage Output. Full-scale set by reference voltage applied to VREFA pin. Output is open circuit when SHDN is enabled.", 3 VSS (power) "Negative Power Supply Input. Specified range of operation is 0 V to -5.5 V.", 4 VREF (in) "Channel B Reference Input. Establishes VOUT full-scale voltage. Specified range of operation is VSS < VREF < VDD.", 5 GND (power) "Common Analog and Digital Ground", 6 ~{LDAC} (in) "Load DAC Register Strobe, Active Low. Simultaneously transfers data from all four input registers into the corresponding DAC registers. Asynchronous active low input. DAC register is transparent when L\D\A\C\ = 0. See Table (See Datasheet)", 7 DB7 (in) "MSB Digital Input Data Bit.", 8 DB6 (in) "Data Bit 6.", 9 DB5 (in) "Data Bit 5.", 10 DB4 (in) "Data Bit 4.", 11 DB3 (in) "Data Bit 3.", 12 DB2 (in) "Data Bit 2.", 13 DB1 (in) "Data Bit 1.", 14 DB0 (in) "LSB Digital Input Data Bit.", 15 ~{WR} (in) "Write Data into Input Register Control Line, Active Low. See Table 6 for operation.", 16 A1 (in) "Address Bit 1.", 17 A0/SHDN "Address Bit 0/Hardware Shutdown (SHDN) Control Input, Active When Pin Is Left Floating by a Three-State Logic Driver. Does not effect DAC register contents as long as power is present on VDD.", 18 VDD (power) "Positive Power Supply Input. Specified range of operation is 2.7 V to 5.5 V.", 19 VOUTD (hiz) "Channel D Rail-to-Rail Buffered DAC Voltage Output. Full-scale set by reference voltage applied to VREFD pin. Output is open circuit when SHDN is enabled", 20 VOUTC (hiz) "Channel C Rail-to-Rail Buffered DAC Voltage Output. Full-scale set by reference voltage applied to VREFC pin. Output is open circuit when SHDN is enabled."

## AD7305BRZ-REEL
designator U?
Quad 8-Bit Rail-to-Rail Output Digital-to-Analog Converter, 3 V / 5 V, -40 to +85 degC, RW-20, Pb-Free, Reel; Generic Part Number: AD7305; Manufacturer: Analog Devices; PartNumber: AD7305BRZ-REEL; # DAC Outputs: 4; Max V+: 5.5V; Op Pwr Diss: 60mW; Resolution (Bits): 8; Settling Time: 1µs; Single Supply: Yes; DatasheetVersion: Rev.C; PackageVersion: 060706-A; PackageReference: RW-20; PackageDescription: 20-Lead Standard Small Outline Package [SOIC_W] Wide Body; Supplier 1: Digi-Key; Supplier Part Number 1: AD7305BRZ-REEL-ND; Supplier 2: Mouser; Supplier Part Number 2: 584-AD7305BRZ-R; Packing: Reel; RoHS: Y; Mounting Technology: Surface Mount; Code_JEDEC: MS-013-AC; ComponentLink1Description: Manufacturer URL; ComponentLink1URL: http://www.analog.com/en/index.html; ComponentLink2Description: Datasheet; ComponentLink2URL: http://www.analog.com/static/imported-files/data_sheets/AD7304_7305.pdf; ComponentLink3Description: Package Specification; ComponentLink3URL: http://www.analog.com/static/imported-files/packages/233848RW_20.pdf; ComponentLink4Description: Product URL; ComponentLink4URL: http://www.analog.com/en/digital-to-analog-converters/da-converters/ad7305/products/product.html
footprint RW-20_N (SOIC, 20-Leads, Body 12.8x7.5mm, Pitch 1.27mm, IPC Medium Density)
footprint RW-20_L (SOIC, 20-Leads, Body 12.8x7.5mm, Pitch 1.27mm, IPC High Density)
footprint RW-20_M (SOIC, 20-Leads, Body 12.8x7.5mm, Pitch 1.27mm, IPC Low Density)
pins: 1 VOUTB (hiz) "Channel B Rail-to-Rail Buffered DAC Voltage Output. Full-scale set by reference voltage applied to VREFB pin. Output is open circuit when SHDN is enabled.", 2 VOUTA (hiz) "Channel A Rail-to-Rail Buffered DAC Voltage Output. Full-scale set by reference voltage applied to VREFA pin. Output is open circuit when SHDN is enabled.", 3 VSS (power) "Negative Power Supply Input. Specified range of operation is 0 V to -5.5 V.", 4 VREF (in) "Channel B Reference Input. Establishes VOUT full-scale voltage. Specified range of operation is VSS < VREF < VDD.", 5 GND (power) "Common Analog and Digital Ground", 6 ~{LDAC} (in) "Load DAC Register Strobe, Active Low. Simultaneously transfers data from all four input registers into the corresponding DAC registers. Asynchronous active low input. DAC register is transparent when L\D\A\C\ = 0. See Table (See Datasheet)", 7 DB7 (in) "MSB Digital Input Data Bit.", 8 DB6 (in) "Data Bit 6.", 9 DB5 (in) "Data Bit 5.", 10 DB4 (in) "Data Bit 4.", 11 DB3 (in) "Data Bit 3.", 12 DB2 (in) "Data Bit 2.", 13 DB1 (in) "Data Bit 1.", 14 DB0 (in) "LSB Digital Input Data Bit.", 15 ~{WR} (in) "Write Data into Input Register Control Line, Active Low. See Table 6 for operation.", 16 A1 (in) "Address Bit 1.", 17 A0/SHDN "Address Bit 0/Hardware Shutdown (SHDN) Control Input, Active When Pin Is Left Floating by a Three-State Logic Driver. Does not effect DAC register contents as long as power is present on VDD.", 18 VDD (power) "Positive Power Supply Input. Specified range of operation is 2.7 V to 5.5 V.", 19 VOUTD (hiz) "Channel D Rail-to-Rail Buffered DAC Voltage Output. Full-scale set by reference voltage applied to VREFD pin. Output is open circuit when SHDN is enabled", 20 VOUTC (hiz) "Channel C Rail-to-Rail Buffered DAC Voltage Output. Full-scale set by reference voltage applied to VREFC pin. Output is open circuit when SHDN is enabled."

## AD7305YRZ
designator U?
Quad 8-Bit Rail-to-Rail Output Digital-to-Analog Converter, 3 V / 5 V, -40 to +125 degC, RW-20, Pb-Free, Tube; Generic Part Number: AD7305; Manufacturer: Analog Devices; PartNumber: AD7305YRZ; # DAC Outputs: 4; Max V+: 5.5V; Op Pwr Diss: 60mW; Resolution (Bits): 8; Settling Time: 1µs; Single Supply: Yes; DatasheetVersion: Rev.C; PackageVersion: 060706-A; PackageReference: RW-20; PackageDescription: 20-Lead Standard Small Outline Package [SOIC_W] Wide Body; Supplier 1: Digi-Key; Supplier Part Number 1: AD7305YRZ-ND; Supplier 2: Mouser; Supplier Part Number 2: 584-AD7305YRZ; Packing: Tube; RoHS: Y; Mounting Technology: Surface Mount; Code_JEDEC: MS-013-AC; ComponentLink1Description: Manufacturer URL; ComponentLink1URL: http://www.analog.com/en/index.html; ComponentLink2Description: Datasheet; ComponentLink2URL: http://www.analog.com/static/imported-files/data_sheets/AD7304_7305.pdf; ComponentLink3Description: Package Specification; ComponentLink3URL: http://www.analog.com/static/imported-files/packages/233848RW_20.pdf; ComponentLink4Description: Product URL; ComponentLink4URL: http://www.analog.com/en/digital-to-analog-converters/da-converters/ad7305/products/product.html
footprint RW-20_N (SOIC, 20-Leads, Body 12.8x7.5mm, Pitch 1.27mm, IPC Medium Density)
footprint RW-20_L (SOIC, 20-Leads, Body 12.8x7.5mm, Pitch 1.27mm, IPC High Density)
footprint RW-20_M (SOIC, 20-Leads, Body 12.8x7.5mm, Pitch 1.27mm, IPC Low Density)
pins: 1 VOUTB (hiz) "Channel B Rail-to-Rail Buffered DAC Voltage Output. Full-scale set by reference voltage applied to VREFB pin. Output is open circuit when SHDN is enabled.", 2 VOUTA (hiz) "Channel A Rail-to-Rail Buffered DAC Voltage Output. Full-scale set by reference voltage applied to VREFA pin. Output is open circuit when SHDN is enabled.", 3 VSS (power) "Negative Power Supply Input. Specified range of operation is 0 V to -5.5 V.", 4 VREF (in) "Channel B Reference Input. Establishes VOUT full-scale voltage. Specified range of operation is VSS < VREF < VDD.", 5 GND (power) "Common Analog and Digital Ground", 6 ~{LDAC} (in) "Load DAC Register Strobe, Active Low. Simultaneously transfers data from all four input registers into the corresponding DAC registers. Asynchronous active low input. DAC register is transparent when L\D\A\C\ = 0. See Table (See Datasheet)", 7 DB7 (in) "MSB Digital Input Data Bit.", 8 DB6 (in) "Data Bit 6.", 9 DB5 (in) "Data Bit 5.", 10 DB4 (in) "Data Bit 4.", 11 DB3 (in) "Data Bit 3.", 12 DB2 (in) "Data Bit 2.", 13 DB1 (in) "Data Bit 1.", 14 DB0 (in) "LSB Digital Input Data Bit.", 15 ~{WR} (in) "Write Data into Input Register Control Line, Active Low. See Table 6 for operation.", 16 A1 (in) "Address Bit 1.", 17 A0/SHDN "Address Bit 0/Hardware Shutdown (SHDN) Control Input, Active When Pin Is Left Floating by a Three-State Logic Driver. Does not effect DAC register contents as long as power is present on VDD.", 18 VDD (power) "Positive Power Supply Input. Specified range of operation is 2.7 V to 5.5 V.", 19 VOUTD (hiz) "Channel D Rail-to-Rail Buffered DAC Voltage Output. Full-scale set by reference voltage applied to VREFD pin. Output is open circuit when SHDN is enabled", 20 VOUTC (hiz) "Channel C Rail-to-Rail Buffered DAC Voltage Output. Full-scale set by reference voltage applied to VREFC pin. Output is open circuit when SHDN is enabled."

## AD7305YRZ-REEL
designator U?
Quad 8-Bit Rail-to-Rail Output Digital-to-Analog Converter, 3 V / 5 V, -40 to +125 degC, RW-20, Pb-Free, Reel; Generic Part Number: AD7305; Manufacturer: Analog Devices; PartNumber: AD7305YRZ-REEL; # DAC Outputs: 4; Max V+: 5.5V; Op Pwr Diss: 60mW; Resolution (Bits): 8; Settling Time: 1µs; Single Supply: Yes; DatasheetVersion: Rev.C; PackageVersion: 060706-A; PackageReference: RW-20; PackageDescription: 20-Lead Standard Small Outline Package [SOIC_W] Wide Body; Supplier 1: Digi-Key; Supplier Part Number 1: AD7305YRZ-REEL-ND; Supplier 2: Mouser; Supplier Part Number 2: 584-AD7305YRZ-R; Packing: Reel; RoHS: Y; Mounting Technology: Surface Mount; Code_JEDEC: MS-013-AC; ComponentLink1Description: Manufacturer URL; ComponentLink1URL: http://www.analog.com/en/index.html; ComponentLink2Description: Datasheet; ComponentLink2URL: http://www.analog.com/static/imported-files/data_sheets/AD7304_7305.pdf; ComponentLink3Description: Package Specification; ComponentLink3URL: http://www.analog.com/static/imported-files/packages/233848RW_20.pdf; ComponentLink4Description: Product URL; ComponentLink4URL: http://www.analog.com/en/digital-to-analog-converters/da-converters/ad7305/products/product.html
footprint RW-20_N (SOIC, 20-Leads, Body 12.8x7.5mm, Pitch 1.27mm, IPC Medium Density)
footprint RW-20_L (SOIC, 20-Leads, Body 12.8x7.5mm, Pitch 1.27mm, IPC High Density)
footprint RW-20_M (SOIC, 20-Leads, Body 12.8x7.5mm, Pitch 1.27mm, IPC Low Density)
pins: 1 VOUTB (hiz) "Channel B Rail-to-Rail Buffered DAC Voltage Output. Full-scale set by reference voltage applied to VREFB pin. Output is open circuit when SHDN is enabled.", 2 VOUTA (hiz) "Channel A Rail-to-Rail Buffered DAC Voltage Output. Full-scale set by reference voltage applied to VREFA pin. Output is open circuit when SHDN is enabled.", 3 VSS (power) "Negative Power Supply Input. Specified range of operation is 0 V to -5.5 V.", 4 VREF (in) "Channel B Reference Input. Establishes VOUT full-scale voltage. Specified range of operation is VSS < VREF < VDD.", 5 GND (power) "Common Analog and Digital Ground", 6 ~{LDAC} (in) "Load DAC Register Strobe, Active Low. Simultaneously transfers data from all four input registers into the corresponding DAC registers. Asynchronous active low input. DAC register is transparent when L\D\A\C\ = 0. See Table (See Datasheet)", 7 DB7 (in) "MSB Digital Input Data Bit.", 8 DB6 (in) "Data Bit 6.", 9 DB5 (in) "Data Bit 5.", 10 DB4 (in) "Data Bit 4.", 11 DB3 (in) "Data Bit 3.", 12 DB2 (in) "Data Bit 2.", 13 DB1 (in) "Data Bit 1.", 14 DB0 (in) "LSB Digital Input Data Bit.", 15 ~{WR} (in) "Write Data into Input Register Control Line, Active Low. See Table 6 for operation.", 16 A1 (in) "Address Bit 1.", 17 A0/SHDN "Address Bit 0/Hardware Shutdown (SHDN) Control Input, Active When Pin Is Left Floating by a Three-State Logic Driver. Does not effect DAC register contents as long as power is present on VDD.", 18 VDD (power) "Positive Power Supply Input. Specified range of operation is 2.7 V to 5.5 V.", 19 VOUTD (hiz) "Channel D Rail-to-Rail Buffered DAC Voltage Output. Full-scale set by reference voltage applied to VREFD pin. Output is open circuit when SHDN is enabled", 20 VOUTC (hiz) "Channel C Rail-to-Rail Buffered DAC Voltage Output. Full-scale set by reference voltage applied to VREFC pin. Output is open circuit when SHDN is enabled."

## AD7390ANZ
designator U?
Single 12-Bit Digital-to-Analog Converter with Serial Interface, -40 to 85 degC, N-8, Pb-Free, Tube; Generic Part Number: AD7390; Manufacturer: Analog Devices; PartNumber: AD7390ANZ; # DAC Outputs: 1; Max V+: 5.5V; Op Pwr Diss: 500µW; Resolution (Bits): 12; Settling Time: 60µs; Single Supply: Yes; DatasheetVersion: Rev.A; PackageVersion: 070606-A; PackageReference: N-8; PackageDescription: 8-Lead Plastic Dual In-Line Package [PDIP] Narrow Body; Supplier 1: Digi-Key; Supplier Part Number 1: AD7390ANZ-ND; Supplier 2: Farnell; Supplier Part Number 2: 1498717; Supplier 3: Mouser; Supplier Part Number 3: 584-AD7390ANZ; Packing: Tube; RoHS: Y; Mounting Technology: Through Hole; Code_JEDEC: MS-001; ComponentLink1Description: Manufacturer URL; ComponentLink1URL: http://www.analog.com/en/index.html; ComponentLink2Description: Datasheet; ComponentLink2URL: http://www.analog.com/static/imported-files/data_sheets/AD7390_7391.pdf; ComponentLink3Description: Package Specification; ComponentLink3URL: http://www.analog.com/static/imported-files/packages/PKG_PDF/PDIP(N)/N_8.pdf; ComponentLink4Description: Product URL; ComponentLink4URL: http://www.analog.com/en/digital-to-analog-converters/da-converters/ad7390/products/product.html
footprint N-8 (DIP, 8-Leads, Row Spacing 7.62mm, Pitch 2.54mm, Body 9.6x6.6mm)
pins: 1 ~{LD} (in) "Load Strobe. Transfers shift register data to DAC register while active low.See truth table for operation.", 2 CLK (in) "Clock Input. Positive edge clocks data into shift register.", 3 SDI (in) "Serial Data Input. Data loads directly into the shift register.", 4 ~{CLR} (in) "Resets DAC register to zero condition.Active low input.", 5 GND (power) "Analog and Digital Ground.", 6 VOUT (out) "DAC Voltage Output. Full-scale output 1 LSB less than reference input voltage REF.", 7 VDD (power) "Positive Power Supply Input. Specified range of operation 2.7 V to 5.5 V.", 8 VREF (in) "DAC Reference Input Pin. Establishes DAC full-scale voltage."